# EAGLE library part 8237-A (library micro-siemens)
MICROPROCESSOR/PERIPHERAL DEVICE
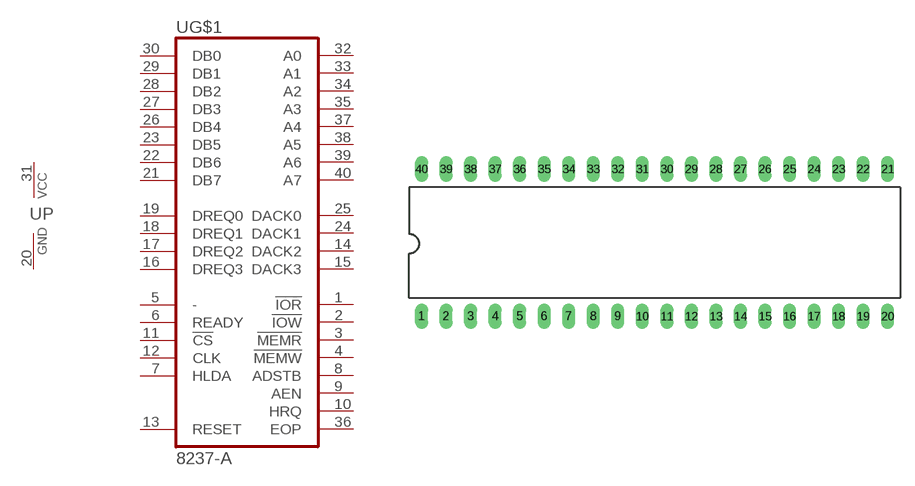
[diagram p22: symbol with the pads of DIL40; footprint DIL40]

Designator prefix U; gates G$1=8237-A P=VCCGND

## 8237-A  [DIL40]
1  G$1:!IOR
2  G$1:!IOW
3  G$1:!MEMR  out
4  G$1:!MEMW  out
5  G$1:-  in
6  G$1:READY  in
7  G$1:HLDA  in
8  G$1:ADSTB  out
9  G$1:AEN  out
10  G$1:HRQ  out
11  G$1:!CS  in
12  G$1:CLK  in
13  G$1:RESET  in
14  G$1:DACK2  out
15  G$1:DACK3  out
16  G$1:DREQ3  in
17  G$1:DREQ2  in
18  G$1:DREQ1  in
19  G$1:DREQ0  in
20  P:GND  pwr
21  G$1:DB7
22  G$1:DB6
23  G$1:DB5
24  G$1:DACK1  out
25  G$1:DACK0  out
26  G$1:DB4
27  G$1:DB3
28  G$1:DB2
29  G$1:DB1
30  G$1:DB0
31  P:VCC  pwr
32  G$1:A0
33  G$1:A1
34  G$1:A2
35  G$1:A3
36  G$1:EOP
37  G$1:A4  out
38  G$1:A5  out
39  G$1:A6  out
40  G$1:A7  out

## Footprint DIL40 (pad centres in mm)
Dual In Line Package
drill 0.813 long: 1 -24.13,-7.62; 2 -21.59,-7.62; 3 -19.05,-7.62; 4 -16.51,-7.62; 5 -13.97,-7.62; 6 -11.43,-7.62; 7 -8.89,-7.62; 8 -6.35,-7.62; 9 -3.81,-7.62; 10 -1.27,-7.62; 11 1.27,-7.62; 12 3.81,-7.62; 13 6.35,-7.62; 14 8.89,-7.62; 15 11.43,-7.62; 16 13.97,-7.62; 17 16.51,-7.62; 18 19.05,-7.62; 19 21.59,-7.62; 20 24.13,-7.62; 21 24.13,7.62; 22 21.59,7.62; 23 19.05,7.62; 24 16.51,7.62; 25 13.97,7.62; 26 11.43,7.62; 27 8.89,7.62; 28 6.35,7.62; 29 3.81,7.62; 30 1.27,7.62; 31 -1.27,7.62; 32 -3.81,7.62; 33 -6.35,7.62; 34 -8.89,7.62; 35 -11.43,7.62; 36 -13.97,7.62; 37 -16.51,7.62; 38 -19.05,7.62; 39 -21.59,7.62; 40 -24.13,7.62